# EAGLE library part BQ79600PWRQ1 (library BQ79600)
Battery Management Automotive SPI/UART communication interface functional-safety compliant with automatic host wakeup Source: Datasheet <https://www.arrow.com/en/products/bq79600pwrq1/texas-instruments>
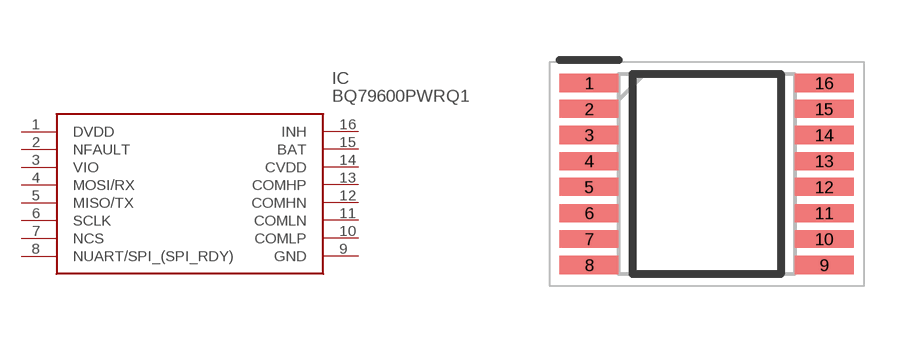
[diagram p0: symbol with the pads of SOP65P640X120-16N; footprint SOP65P640X120-16N]

Designator prefix IC

## BQ79600PWRQ1 (DESCRIPTION: Battery Management Automotive SPI/UART communication interface functional-safety compliant with automatic host wakeup; HEIGHT: 1.2mm; MANUFACTURER_NAME: Texas Instruments; MANUFACTURER_PART_NUMBER: BQ79600PWRQ1; MOUSER_PART_NUMBER: 595-BQ79600PWRQ1; MOUSER_PRICE-STOCK: https://www.mouser.co.uk/ProductDetail/Texas-Instruments/BQ79600PWRQ1?qs=bAKSY%2FctAC74v4PXQeVHrA%3D%3D)  [SOP65P640X120-16N]
1  DVDD
2  NFAULT
3  VIO
4  MOSI/RX
5  MISO/TX
6  SCLK
7  NCS
8  NUART/SPI_(SPI_RDY)
9  GND
10  COMLP
11  COMLN
12  COMHN
13  COMHP
14  CVDD
15  BAT
16  INH

## Footprint SOP65P640X120-16N (pad centres in mm)
PW
smd 1.475 x 0.45: 1 -2.938,2.275; 2 -2.938,1.625; 3 -2.938,0.975; 4 -2.938,0.325; 5 -2.938,-0.325; 6 -2.938,-0.975; 7 -2.938,-1.625; 8 -2.938,-2.275; 9 2.938,-2.275; 10 2.938,-1.625; 11 2.938,-0.975; 12 2.938,-0.325; 13 2.938,0.325; 14 2.938,0.975; 15 2.938,1.625; 16 2.938,2.275